# EAGLE library part MOD_ESP8266WROOM02 (library akita)
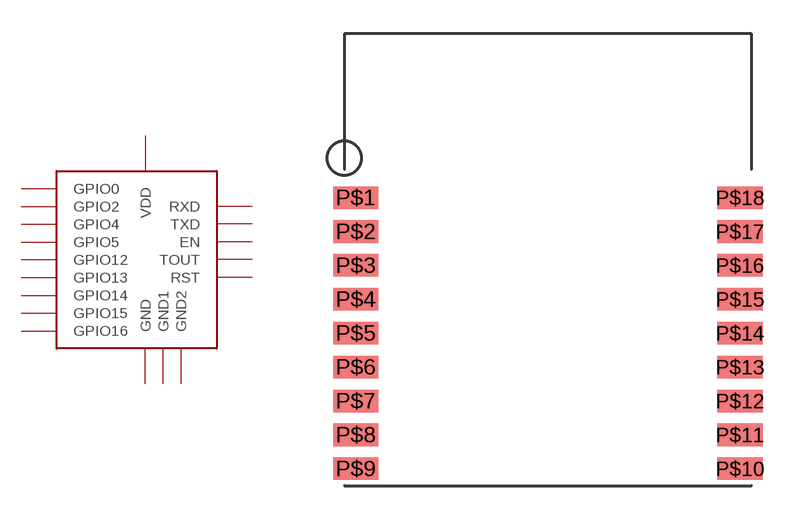
[diagram p92: symbol with the pads of MOD_ESP8266WROOM02; footprint MOD_ESP8266WROOM02]

Designator prefix U

## MOD_ESP8266WROOM02  [MOD_ESP8266WROOM02]
P$1  VDD
P$2  EN
P$3  GPIO14
P$4  GPIO12
P$5  GPIO13
P$6  GPIO15
P$7  GPIO2
P$8  GPIO0
P$9  GND
P$10  GPIO4
P$11  RXD
P$12  TXD
P$13  GND1
P$14  GPIO5
P$15  RST
P$16  TOUT
P$17  GPIO16
P$18  GND2

## Footprint MOD_ESP8266WROOM02 (pad centres in mm)
smd 2 x 1: P$1 -8.5,2.75; P$2 -8.5,1.25; P$3 -8.5,-0.25; P$4 -8.5,-1.75; P$5 -8.5,-3.25; P$6 -8.5,-4.75; P$7 -8.5,-6.25; P$8 -8.5,-7.75; P$9 -8.5,-9.25; P$10 8.5,-9.25; P$11 8.5,-7.75; P$12 8.5,-6.25; P$13 8.5,-4.75; P$14 8.5,-3.25; P$15 8.5,-1.75; P$16 8.5,-0.25; P$17 8.5,1.25; P$18 8.5,2.75